# EAGLE library part SM06B-NSHSS-TB (library NSH)
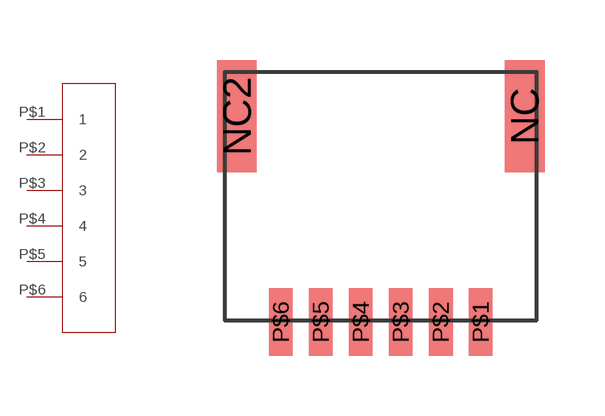
[diagram p10: symbol with the pads of SM06B-NSHSS-TB; footprint SM06B-NSHSS-TB]

Designator prefix -

## SM06B-NSHSS-TB  [SM06B-NSHSS-TB]
P$1  1
P$2  2
P$3  3
P$4  4
P$5  5
P$6  6

## Footprint SM06B-NSHSS-TB (pad centres in mm)
smd 1 x 2.8: NC 3.6,-1.4; NC2 -3.6,-1.4
smd 0.6 x 1.7: P$1 2.5,-6.55; P$2 1.5,-6.55; P$3 0.5,-6.55; P$4 -0.5,-6.55; P$5 -1.5,-6.55; P$6 -2.5,-6.55